# Altium schematic symbol library General_Diodes.SchLib: 3 symbols
Pins are listed as number, name and electrical type; pins without a type are passive.

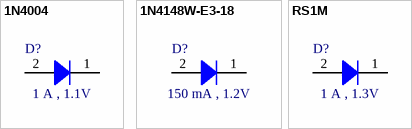
[diagram p0: symbols 1N4004 to RS1M]

## 1N4004
designator D?, comment 1 A , 1.1V
Rectifiers 1N4004 1A 400V; Manufacturer: Rectron; Manufacturer Part Number: FM4004-W; Max Surge Current: 30 A; Recovery Time: 2.5 us; Reverse Current: 500 nA; Type: Rectifiers; Supplier 1 URL: https://www.mouser.vn/ProductDetail/Rectron/FM4004-W?qs=Iw9Ubr57Px3IHNH1bE4l9w%3D%3D; Supplier 2 URL: https://www.digikey.com/en/products/detail/rectron-usa/fm4004-w/12337488; Supplier 3 URL: https://www.thegioiic.com/1n4004-m4-diode-chinh-luu-1a-400v; Value: 1 A , 1.1V; Forward Current: 1 A; Forward Voltage: 1.1 V; Maximum Diode Capacitance: N/A; Peak Reverse Voltage: 400 V; Power Dissipation: N/A; Supplier 1: Mouser; Supplier 1 Part Number: 583-FM4004; Supplier 2: Digi-Key; Supplier 2 Part Number: 2516-FM4004-WTR-ND; Supplier 3: thegioiic; Supplier 3 Part Number: 1N4004-M4; Mount: SMD/SMT; Operating Temperature Max: + 85 C; Operating Temperature Min: - 40 C; Package / Case: SMX; ComponentLink1Description: Datasheet; ComponentLink1URL: https://www.mouser.vn/datasheet/2/345/fm4001_fm4007-1113844.pdf; Packaging: Tape and Reel; LCSC Part #: C727080
footprint SMA (DO-214AC) (Molded Diode, 2-Leads, Body 4.25x2.67mm, IPC Medium Density)
pins: 1 K, 2 A

## 1N4148W-E3-18
designator D?, comment 150 mA , 1.2V
Diodes - General Purpose, Power, Switching 100 Volt 500mA 4ns; Manufacturer: Vishay Semiconductors; Manufacturer Part Number: 1N4148W-E3-18; Type: Rectifiers; Forward Current: 150 mA; Maximum Diode Capacitance: 4 pF; Max Surge Current: 2 A; Peak Reverse Voltage: 100 V; Power Dissipation: 350 mW; Reverse Current: 5 uA; Supplier 1 URL: https://www.mouser.vn/ProductDetail/Vishay-Semiconductors/1N4148W-E3-18?qs=bTzheeSci6Q3YaBSBujcdg%3D%3D; Supplier 2 URL: https://www.digikey.com/en/products/detail/vishay-general-semiconductor-diodes-division/1n4148w-e3-18/3104163; Supplier 3 URL: https://www.thegioiic.com/1n4148w-e3-18-diode-gen-purp-75v-150ma-sod123; Value: 150 mA , 1.2V; Forward Voltage: 1.2 V; Recovery Time: 4 ns; Supplier 1: Mouser; Supplier 1 Part Number: 78-1N4148W-E3-18; Supplier 2: Digi-Key; Supplier 2 Part Number: 1N4148W-E3-18TR-ND; Supplier 3: thegioiic; Supplier 3 Part Number: 1N4148W-E3-18; Mount: SMD/SMT; Operating Temperature Max: + 85 C; Operating Temperature Min: - 40 C; Package / Case: SOD-123; ComponentLink1Description: Datasheet; ComponentLink1URL: https://www.vishay.com/doc?85748; Packaging: Tape and Reel; LCSC Part #: N/A
footprint SOD-123 (SOIC, 2-Leads, Body 1.55x2.70mm, Pitch 1.27mm, IPC Medium Density)
pins: 1 K, 2 A

## RS1M
designator D?, comment 1 A , 1.3V
Rectifiers 1000V 1a Fast Rect SMa; Manufacturer: onsemi; Manufacturer Part Number: RS1M; Max Surge Current: 30 A; Peak Reverse Voltage: 1 kV; Power Dissipation: 1.19 W; Recovery Time: 500 ns; Reverse Current: 5 uA; Type: Rectifiers; Supplier 1 URL: https://www.mouser.vn/ProductDetail/onsemi-Fairchild/RS1M?qs=e%2FRqmsgwm9icSRWI%2F467wA%3D%3D; Supplier 2 URL: https://www.digikey.com/en/products/detail/onsemi/rs1m/1048919; Supplier 3 URL: https://www.thegioiic.com/fr107-rs1m-sma-diode-chinh-luu-1a-1kv; Value: 1 A , 1.3V; Forward Current: 1 A; Forward Voltage: 1.3 V; Maximum Diode Capacitance: N/A; Supplier 1: Mouser; Supplier 1 Part Number: 512-RS1M; Supplier 2: Digi-Key; Supplier 2 Part Number: RS1MFSTR-ND; Supplier 3: thegioiic; Supplier 3 Part Number: FR107 RS1M; Mount: SMD/SMT; Operating Temperature Max: + 85 C; Operating Temperature Min: - 40 C; Package / Case: DO-214AC; ComponentLink1Description: Datasheet; ComponentLink1URL: https://www.mouser.vn/datasheet/2/308/1/RS1M_D-2320127.pdf; Packaging: Tape and Reel; LCSC Part #: N/A
footprint SMA (DO-214AC) (Molded Diode, 2-Leads, Body 4.25x2.67mm, IPC Medium Density)
pins: 1 K, 2 A